# Altium footprint library Bourns-3269-Series.PcbLib: 1 footprints
Each footprint in its own frame and in the unit in brackets; x right, y up, seen from the top. Pads: shape width x height; smd on the part's side, far side on the other; paste and mask are expansions set on the pad; w line width, h text height; cw(c..) or ccw(c..) is an arc to the next point about the centre after c.
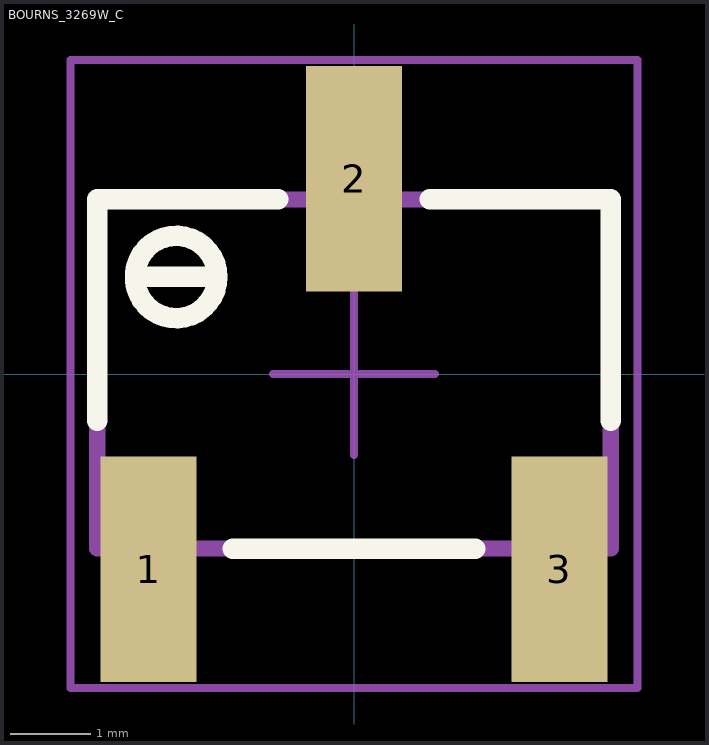
[diagram p0: the footprint, top view; thin cyan lines are the x and y axes]

## BOURNS_3269W_C [mm] "3269 - 1/4 ˝ Square SMD Trimpot® Trimming Potentiometer"
height 8.46
pads (3):
  rect 1.19x2.79 smd: 1(-2.54,-2.415) 2(0,2.415) 3(2.54,-2.415)
Top Overlay:
  circle w0.254: c-2.2,1.2 r0.51
  lines w0.254: -3.175,-0.575 -3.175,2.16 -0.94,2.16 ; -2.7,1.2 -1.69,1.2 ; -1.5,-2.16 1.5,-2.16 ; 0.94,2.16 3.175,2.16 3.175,-0.575
Top Assembly:
  circle w0.2: c-2.2,1.2 r0.51
  lines w0.2: -2.94,-2.24 -2.94,-3.24 -2.14,-3.24 -2.14,-2.24 ; -2.7,1.2 -1.69,1.2 ; -0.4,2.2 -0.4,3.2 0.4,3.2 0.4,2.2 ; 2.14,-2.24 2.14,-3.24 2.94,-3.24 2.94,-2.24 ; -3.175,-2.16 -3.175,2.16 3.175,2.16 3.175,-2.16 -3.175,-2.16
Top Designator:
  text ".Designator" at -1.4,-0.367 h1
Top Courtyard (Mech15):
  lines w0.1: -1,0 1,0 ; 0,-1 0,1 ; -3.505,-3.885 -3.505,3.885 3.505,3.885 3.505,-3.885 -3.505,-3.885
3D body "3269W.stp": height 8.38, standoff 0, extent -3.353,-3.239 3.353,3.238